# Altium schematic symbol library GENERIC_L.Schlib: 1 symbol
Pins are listed as number, name and electrical type; pins without a type are passive.

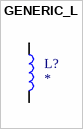
[diagram p0: symbol GENERIC_L]

## GENERIC_L
designator L?
Inductor
pins: 1, 2